# Altium footprint library 470.PcbLib: 1 footprints
Each footprint in its own frame and in the unit in brackets; x right, y up, seen from the top. Pads: shape width x height; smd on the part's side, far side on the other; paste and mask are expansions set on the pad; w line width, h text height; cw(c..) or ccw(c..) is an arc to the next point about the centre after c.
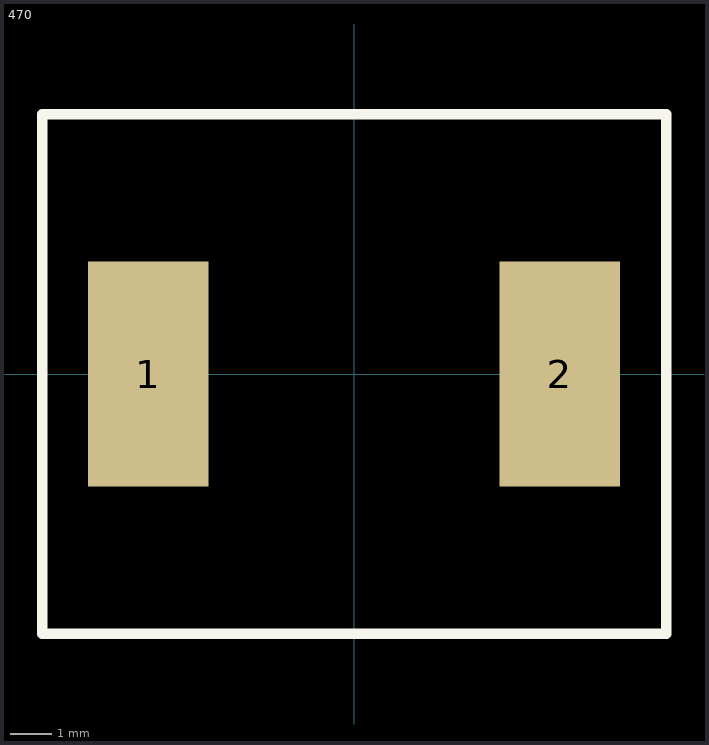
[diagram p0: the footprint, top view; thin cyan lines are the x and y axes]

## 470 [mm]
pads (2):
  rect 2.9x5.4 smd mask+0: 1(-4.95,0) 2(4.95,0)
Top Overlay:
  lines w0.254: -7.5,-6.25 7.51,-6.25 7.51,6.25 -7.5,6.25 -7.5,-6.25